# Altium schematic symbol library M3-TH.Schlib: 1 symbol
Pins are listed as number, name and electrical type; pins without a type are passive.

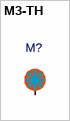
[diagram p0: symbol M3-TH]

## M3-TH
designator M?
pins: 1